# Altium schematic symbol library Relays.SchLib: 8 symbols
Pins are listed as number, name and electrical type; pins without a type are passive.

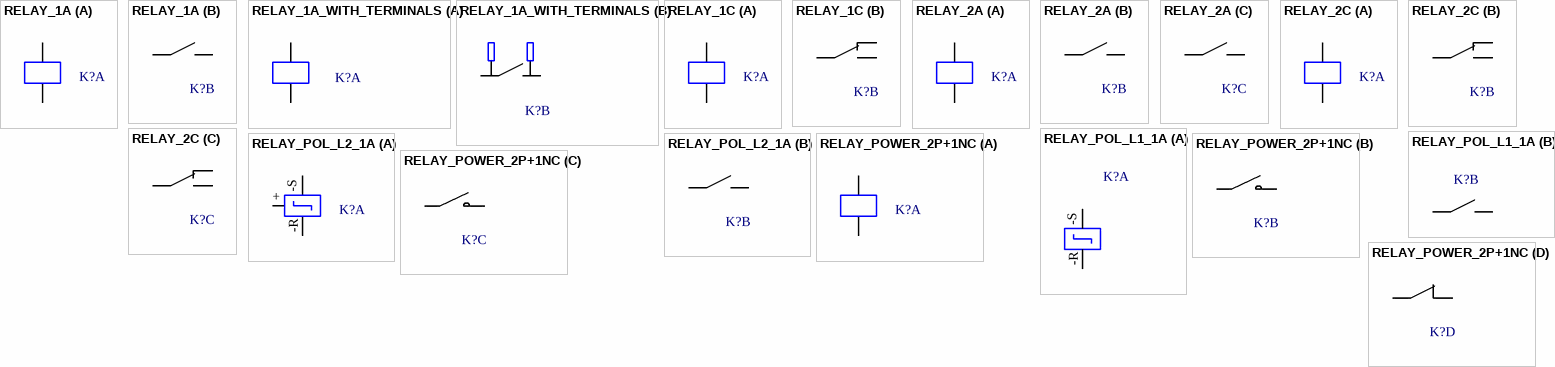
[diagram p0: symbols RELAY_1A to RELAY_POWER_2P+1NC]

## RELAY_1A
designator K?
part A pins: A1, A2
part B pins: 11, 14

## RELAY_1A_WITH_TERMINALS
designator K?
part A pins: A1, A2
part B pins: 11, 14

## RELAY_1C
designator K?
MFPN: BPM1-SS-1-105L
part A pins: A1, A2
part B pins: 11, 12, 14

## RELAY_2A
designator K?
part A pins: A1, A2
part B pins: 11, 14
part C pins: 21, 24

## RELAY_2C
designator K?
MFPN: BPM1-SS-1-105L
part A pins: A1, A2
part B pins: 11, 12, 14
part C pins: 21, 22, 24

## RELAY_POL_L1_1A
designator K?
MFPN: HF115F-L/12-HS3L2TF; Supplier: BIG
part A pins: -R, -S
part B pins: 11, 14

## RELAY_POL_L2_1A
designator K?
MFPN: HF115F-L/12-HS3L2TF; Supplier: BIG
part A pins: +, -R, -S
part B pins: 11, 14

## RELAY_POWER_2P+1NC
designator K?
MFPN: BPM1-SS-1-105L
part A pins: A1, A2
part B pins: 1, 2
part C pins: 3, 4
part D pins: 21, 22